# Altium footprint library transistors.pcblib: 31 footprints (part 1 of 2)
Each footprint in its own frame and in the unit in brackets; x right, y up, seen from the top. Pads: shape width x height; smd on the part's side, far side on the other; paste and mask are expansions set on the pad; w line width, h text height; cw(c..) or ccw(c..) is an arc to the next point about the centre after c.
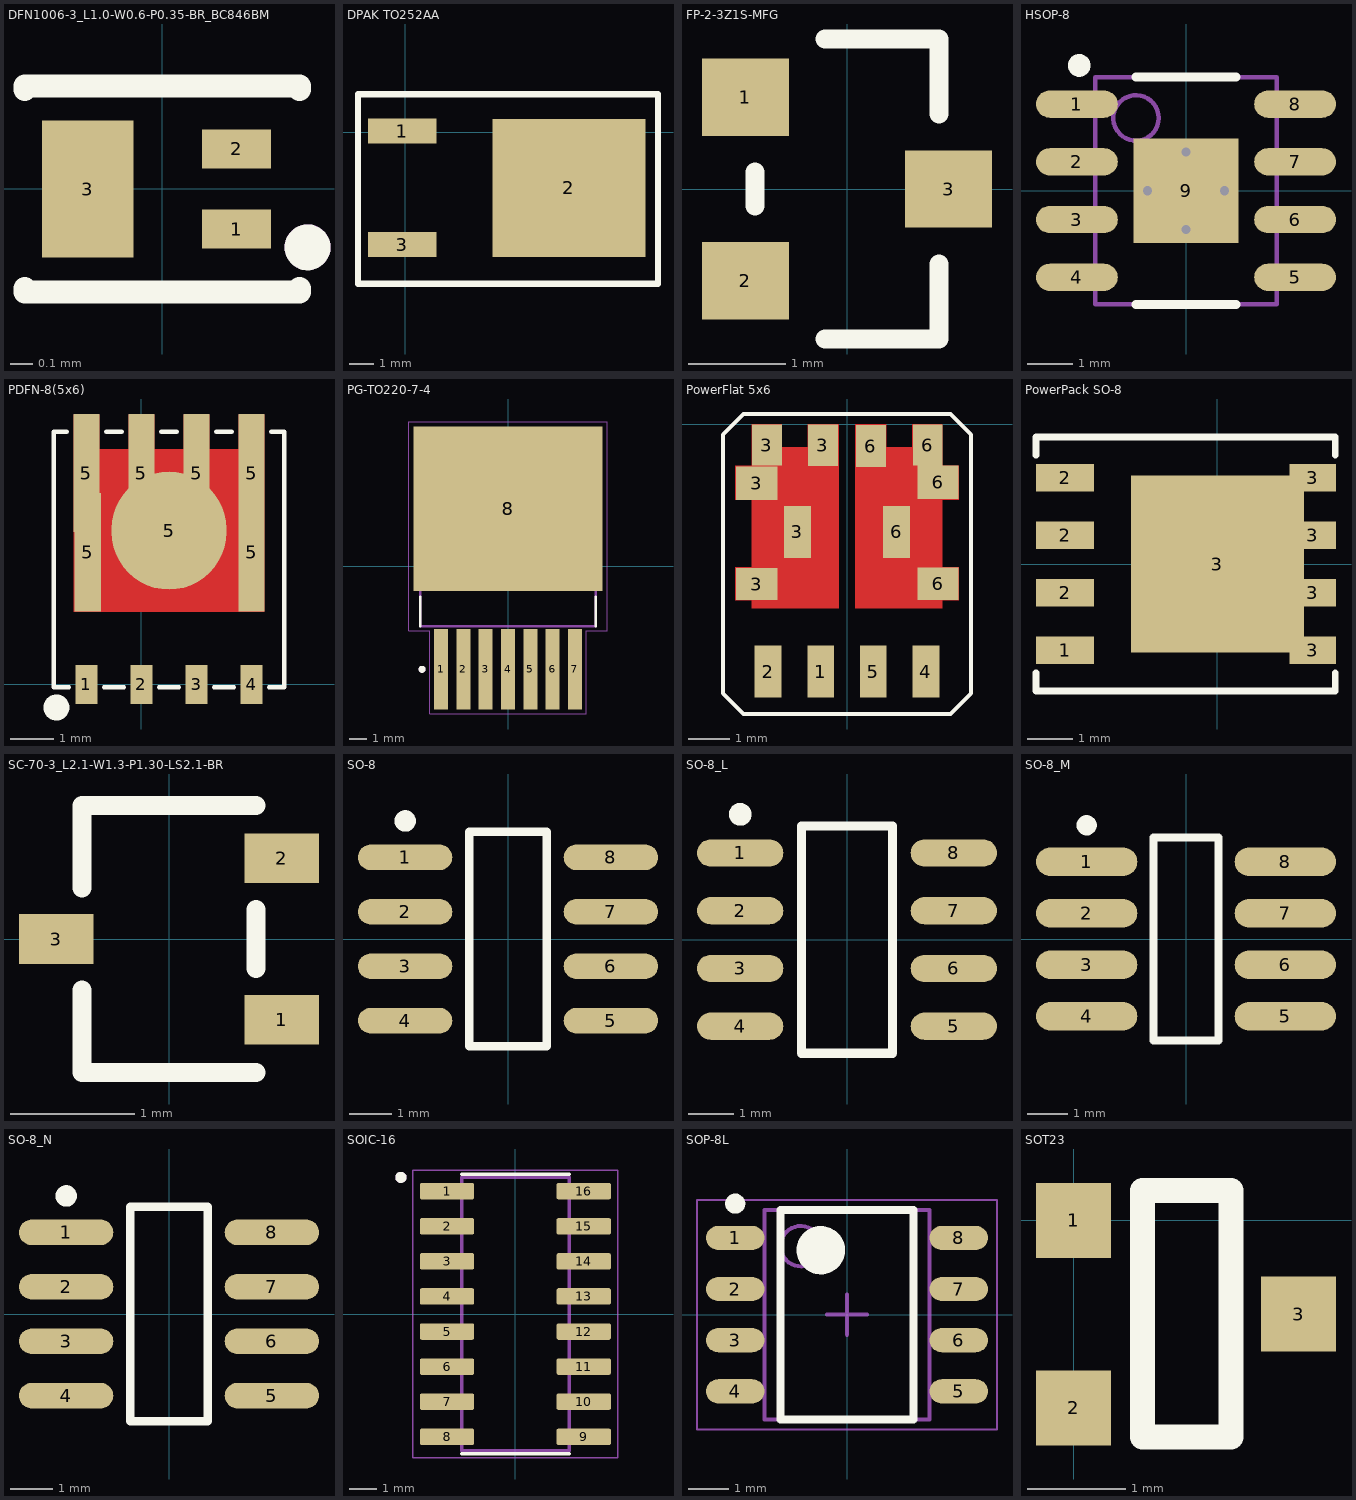
[diagram p0: the footprints below, top view; thin cyan lines are the x and y axes]

## DFN1006-3_L1.0-W0.6-P0.35-BR_BC846BM [mm]
pads (3):
  rect 0.3x0.17 smd paste+0 mask+0.05: 1(0.325,-0.175) 2(0.325,0.175)
  rect 0.4x0.6 smd paste+0 mask+0.05: 3(-0.325,0)
Top Overlay:
  circle w0.1: c0.635,-0.255 r0.05
  lines w0.1: -0.6,-0.434 -0.6,-0.45 0.6,-0.45 0.6,-0.434 ; -0.6,0.434 -0.6,0.45 0.6,0.45 0.6,0.434
Bot3D:
  circle w0.1: c0.635,-0.254 r0.05
3D body "User Library-X1-DFN1006-3_Dot.step": height 0.5, standoff 0, extent -0.5,-0.3 0.5,0.3

## DPAK TO252AA [mm]
height 4
pads (3):
  rect 2.75x1 smd: 1(-0.12,0.04) 3(-0.12,-4.52)
  rect 6.15x5.55 smd: 2(6.58,-2.24)
Top Overlay:
  lines w0.254: -1.905,-6.096 10.16,-6.096 10.16,1.524 -1.905,1.524 -1.905,-6.096
3D body "User Library-DPAK-1.step": height 2.34, standoff -0.07, extent -0.985,-5.505 8.954,1.035

## FP-2-3Z1S-MFG [mm]
pads (3):
  rect 0.9x0.8 smd paste+0 mask+0: 1(-1.05,0.95) 2(-1.05,-0.95) 3(1.05,0)
Top Overlay:
  lines w0.2: -0.95,-0.175 -0.95,0.175 ; -0.225,-1.55 0.95,-1.55 0.95,-0.775 ; -0.225,1.55 0.95,1.55 0.95,0.775
3D body "Trans_Toshiba_SSM3K361R_LF_eec.STEP": height 0.88, standoff 0, extent -1.2,-1.45 1.2,1.45

## HSOP-8 [mm]
pads (9):
  oval 1.8x0.6 smd: 1(-2.4,1.905) 2(-2.4,0.635) 3(-2.4,-0.635) 4(-2.4,-1.905) 5(2.4,-1.905) 6(2.4,-0.635) 7(2.4,0.635) 8(2.4,1.905)
  rect 2.3x2.3 smd paste-1.15: 9(0,0)
via 0,-0.85 diameter 0.5 hole 0.2
via 0,0.85 diameter 0.5 hole 0.2
via -0.85,0 diameter 0.5 hole 0.2
via 0.85,0 diameter 0.5 hole 0.2
Top Overlay:
  circle w0.25: c-2.35,2.755 r0.125
  lines w0.2: -1.1,-2.5 1.1,-2.5 ; -1.1,2.5 1.1,2.5
Top Paste:
  rectangle: 0.1,0.1 1.05,1.05
  region: -0.1,0.1 -0.1,1.05 -1.05,1.05 -1.05,0.1
  region: -0.1,-0.1 -1.05,-0.1 -1.05,-1.05 -0.1,-1.05
  region: 0.1,-0.1 0.1,-1.05 1.05,-1.05 1.05,-0.1
Plata3D:
  circle w0.1: c-1.1,1.6 r0.5
  lines w0.1: -2,-2.5 -2,2.5 2,2.5 2,-2.5 -2,-2.5
3D body: height 1.7, standoff 0, extent -2,-2.5 2,2.5

## PDFN-8(5x6) [mm]
pads (11):
  rect 0.5x0.9 smd paste-100 mask+0.05: 1(-1.27,0) 2(0,0) 3(1.27,0) 4(2.54,0)
  rect 0.61x2.73 smd mask+0.05: 5(-1.27,4.877) 5(-1.245,3.048) 5(0,4.877) 5(1.27,4.877) 5(2.54,3.048) 5(2.54,4.877)
  oval 2.646x2.73 smd: 5(0.635,3.55)
Top Layer:
  region: -1.57,1.675 -1.57,6.225 -0.97,6.225 -0.97,5.425 -0.3,5.425 -0.3,6.225 0.3,6.225 0.3,5.425 0.97,5.425 0.97,6.225 1.57,6.225 1.57,5.425 2.24,5.425 2.24,6.225 2.84,6.225 2.84,1.675
Top Overlay:
  circle w0.3: c-1.965,-0.535 r0.15
  lines w0.1: -1.724,5.83 -2.025,5.83 -2.025,-0.07 -1.674,-0.07 ; -0.866,-0.07 -0.404,-0.07 ; -0.816,5.83 -0.454,5.83 ; 0.404,-0.07 0.866,-0.07 ; 0.454,5.83 0.816,5.83 ; 1.674,-0.07 2.136,-0.07 ; 1.724,5.83 2.086,5.83 ; 2.944,-0.07 3.295,-0.07 3.295,5.83 2.994,5.83
Top Paste:
  region: -1.525,0.46 -1.025,0.46 -1.025,-0.46 -1.525,-0.46
  region: -0.255,0.46 0.245,0.46 0.245,-0.46 -0.255,-0.46
  region: 1.015,0.46 1.515,0.46 1.515,-0.46 1.015,-0.46
  region: 2.285,0.46 2.785,0.46 2.785,-0.46 2.285,-0.46
  region: -0.97,5.425 -0.97,6.225 -1.57,6.225 -1.57,1.675 2.84,1.675 2.84,6.225 2.24,6.225 2.24,5.425 1.57,5.425 1.57,6.225 0.97,6.225 0.97,5.425 0.3,5.425 0.3,6.225 -0.3,6.225 -0.3,5.425
3D body "User Library-DFN5x6_SO8FL.STEP": height 1.13, standoff 0, extent -1.94,-0.173 3.21,5.977

## PG-TO220-7-4 [mm]
height 4.4
pads (8):
  rect 0.8x4.6 smd paste-3: 1(-3.81,-5.875) 2(-2.54,-5.875) 3(-1.27,-5.875) 4(0,-5.875) 5(1.27,-5.875) 6(2.54,-5.875) 7(3.81,-5.875)
  rect 10.8x9.4 smd paste-6: 8(0,3.275)
Top Overlay:
  circle w0.2: c-4.9,-5.875 r0.1
  lines w0.127: -5,-3.425 -5,-1.745 ; 5,-3.425 5,-1.745
Top Paste:
  region: 4.189,-8.057 3.431,-8.057 3.431,-3.693 4.189,-3.693
  region: 2.919,-8.057 2.161,-8.057 2.161,-3.693 2.919,-3.693
  region: 1.649,-8.057 0.891,-8.057 0.891,-3.693 1.649,-3.693
  region: 0.379,-8.057 -0.379,-8.057 -0.379,-3.693 0.379,-3.693
  region: -0.891,-8.057 -1.649,-8.057 -1.649,-3.693 -0.891,-3.693
  region: -2.161,-8.057 -2.919,-8.057 -2.919,-3.693 -2.161,-3.693
  region: -3.431,-8.057 -4.189,-8.057 -4.189,-3.693 -3.431,-3.693
  region: -3.61,6.085 -5.03,6.085 -5.03,7.515 -3.61,7.515
  region: -1.45,6.085 -2.87,6.085 -2.87,7.515 -1.45,7.515
  region: 5.03,6.085 3.61,6.085 3.61,7.515 5.03,7.515
  region: 2.87,6.085 1.45,6.085 1.45,7.515 2.87,7.515
  region: 0.71,6.085 -0.71,6.085 -0.71,7.515 0.71,7.515
  region: -3.61,3.735 -5.03,3.735 -5.03,5.165 -3.61,5.165
  region: -1.45,3.735 -2.87,3.735 -2.87,5.165 -1.45,5.165
  region: 5.03,3.735 3.61,3.735 3.61,5.165 5.03,5.165
  region: 2.87,3.735 1.45,3.735 1.45,5.165 2.87,5.165
  region: 0.71,3.735 -0.71,3.735 -0.71,5.165 0.71,5.165
  region: -3.61,1.385 -5.03,1.385 -5.03,2.815 -3.61,2.815
  region: -1.45,1.385 -2.87,1.385 -2.87,2.815 -1.45,2.815
  region: 5.03,1.385 3.61,1.385 3.61,2.815 5.03,2.815
  region: 2.87,1.385 1.45,1.385 1.45,2.815 2.87,2.815
  region: 0.71,1.385 -0.71,1.385 -0.71,2.815 0.71,2.815
  region: -3.61,-0.965 -5.03,-0.965 -5.03,0.465 -3.61,0.465
  region: -1.45,-0.965 -2.87,-0.965 -2.87,0.465 -1.45,0.465
  region: 5.03,-0.965 3.61,-0.965 3.61,0.465 5.03,0.465
  region: 2.87,-0.965 1.45,-0.965 1.45,0.465 2.87,0.465
  region: 0.71,-0.965 -0.71,-0.965 -0.71,0.465 0.71,0.465
Plata3D:
  circle w0.2: c-4.9,-5.875 r0.1
  lines w0.127: -5,-3.425 -5,6.825 5,6.825 5,-3.425 -5,-3.425
Board3D:
  lines w0.05: -5.65,-3.675 -4.46,-3.675 -4.46,-8.425 4.46,-8.425 4.46,-3.675 5.65,-3.675 5.65,8.225 -5.65,8.225 -5.65,-3.675
3D body "TO-263-8.STEP": height 4.51, standoff 0.01, extent -5,-7.45 5,7.5

## PowerFlat 5x6 [mm]
pads (14):
  rect 0.65x1.25 smd: 1(-0.635,-5.975) 2(-1.905,-5.975) 4(1.905,-5.975) 5(0.635,-5.975)
  rect 1x0.78 smd mask+0.05: 3(-2.184,-3.861) 6(2.2,-3.85)
  rect 1x0.8 smd mask+0.05: 3(-2.184,-1.422) 6(2.2,-1.4)
  rect 0.725x1 smd mask+0.05: 3(-1.938,-0.5) 3(-0.584,-0.508)
  rect 0.65x1.25 smd mask+0: 3(-1.2,-2.6) 6(1.2,-2.6)
  rect 0.725x1.01 smd mask+0.05: 6(0.575,-0.525)
  rect 0.715x1 smd mask+0.05: 6(1.95,-0.5)
Top Layer:
  region: -0.2,-4.45 -2.3,-4.45 -2.3,-4.25 -2.7,-4.25 -2.7,-3.45 -2.3,-3.45 -2.3,-1.825 -2.7,-1.825 -2.7,-1 -2.3,-1 -2.3,0 -1.575,0 -1.575,-0.55 -0.95,-0.55 -0.95,0 -0.2,0
  region: 0.2,-4.45 2.3,-4.45 2.3,-4.25 2.7,-4.25 2.7,-3.45 2.3,-3.45 2.3,-1.825 2.7,-1.825 2.7,-1 2.3,-1 2.3,0 1.575,0 1.575,-0.55 0.95,-0.55 0.95,0 0.2,0
Top Overlay:
  lines w0.1: 2.5,-7 3,-6.5 3,-0.25 2.5,0.25 -2.5,0.25 -3,-0.25 -3,-2.5 -3,-6.5 -2.5,-7 2.5,-7 ; 2.5,-7 2.5,-7
3D body "User Library-Power_Flat_5x6.step": height 0.95, standoff -0.04, extent -2.6,-6.375 2.6,-0.225

## PowerPack SO-8 [mm]
pads (9):
  rect 1.27x0.61 smd mask+0.05: 1(-3.36,-1.905) 2(-3.36,-0.635) 2(-3.36,0.635) 2(-3.36,1.905)
  rect 3.81x3.91 smd mask+0.05: 3(0,0)
  rect 1.02x0.61 smd mask+0.05: 3(2.105,-1.905) 3(2.105,-0.635) 3(2.105,0.635) 3(2.105,1.905)
Top Overlay:
  lines w0.15: -4,-2.4 -4,-2.8 2.6,-2.8 2.6,-2.4 ; -4,2.4 -4,2.8 2.6,2.8 2.6,2.4
3D body "User Library-PowerPAK_SO8_single.step": height 1.09, standoff -0.03, extent -3.8,-2.625 2.44,2.625

## SC-70-3_L2.1-W1.3-P1.30-LS2.1-BR [mm]
pads (3):
  rect 0.6x0.4 smd: 1(0.91,-0.65) 2(0.91,0.65) 3(-0.91,0)
Top Overlay:
  lines w0.152: -0.701,-0.411 -0.701,-1.076 0.701,-1.076 ; -0.701,0.411 -0.701,1.076 0.701,1.076 ; 0.701,-0.239 0.701,0.239
3D body "User Library-sc70-3.step": height 1, standoff 0, extent -1.15,-1.05 1.15,1.05

## SO-8 [mm] "SOIC, 8-Leads, Body 4.9x3.9mm, Pitch 1.27mm, IPC Medium Density"
height 1.75
pads (8):
  oval 2.2x0.6 smd: 1(-2.4,1.905) 2(-2.4,0.635) 3(-2.4,-0.635) 4(-2.4,-1.905) 5(2.4,-1.905) 6(2.4,-0.635) 7(2.4,0.635) 8(2.4,1.905)
Top Overlay:
  circle w0.25: c-2.4,2.755 r0.125
  lines w0.2: -0.9,-2.5 0.9,-2.5 0.9,2.5 -0.9,2.5 -0.9,-2.5
3D body "so-8.step": height 1.88, standoff -0.03, extent -3.169,-2.515 3.169,2.489

## SO-8_L [mm] "SOIC, 8-Leads, Body 4.9x3.9mm, Pitch 1.27mm, IPC High Density"
height 1.75
pads (8):
  oval 1.9x0.6 smd: 1(-2.35,1.905) 2(-2.35,0.635) 3(-2.35,-0.635) 4(-2.35,-1.905) 5(2.35,-1.905) 6(2.35,-0.635) 7(2.35,0.635) 8(2.35,1.905)
Top Overlay:
  circle w0.25: c-2.35,2.755 r0.125
  lines w0.2: -1,-2.5 -1,2.5 1,2.5 1,-2.5 -1,-2.5
3D body "so-8.step": height 1.88, standoff -0.03, extent -3.169,-2.515 3.169,2.489

## SO-8_M [mm] "SOIC, 8-Leads, Body 4.9x3.9mm, Pitch 1.27mm, IPC Low Density"
height 1.75
pads (8):
  oval 2.5x0.7 smd: 1(-2.45,1.905) 2(-2.45,0.635) 3(-2.45,-0.635) 4(-2.45,-1.905) 5(2.45,-1.905) 6(2.45,-0.635) 7(2.45,0.635) 8(2.45,1.905)
Top Overlay:
  circle w0.25: c-2.45,2.805 r0.125
  lines w0.2: -0.8,-2.5 0.8,-2.5 0.8,2.5 -0.8,2.5 -0.8,-2.5
3D body "so-8.step": height 1.88, standoff -0.03, extent -3.169,-2.515 3.169,2.489

## SO-8_N [mm] "SOIC, 8-Leads, Body 4.9x3.9mm, Pitch 1.27mm, IPC Medium Density"
height 1.75
pads (8):
  oval 2.2x0.6 smd: 1(-2.4,1.905) 2(-2.4,0.635) 3(-2.4,-0.635) 4(-2.4,-1.905) 5(2.4,-1.905) 6(2.4,-0.635) 7(2.4,0.635) 8(2.4,1.905)
Top Overlay:
  circle w0.25: c-2.4,2.755 r0.125
  lines w0.2: -0.9,-2.5 0.9,-2.5 0.9,2.5 -0.9,2.5 -0.9,-2.5
3D body "so-8.step": height 1.88, standoff -0.03, extent -3.169,-2.515 3.169,2.489

## SOIC-16 [mm]
pads (16):
  rrect25% 1.97x0.6 smd: 1(-2.475,4.445) 2(-2.475,3.175) 3(-2.475,1.905) 4(-2.475,0.635) 5(-2.475,-0.635) 6(-2.475,-1.905) 7(-2.475,-3.175) 8(-2.475,-4.445) 9(2.475,-4.445) 10(2.475,-3.175) 11(2.475,-1.905) 12(2.475,-0.635) 13(2.475,0.635) 14(2.475,1.905) 15(2.475,3.175) 16(2.475,4.445)
Top Overlay:
  circle w0.2: c-4.145,4.945 r0.1
  lines w0.127: -1.95,-5.065 1.95,-5.065 ; -1.95,5.065 1.95,5.065
Plata3D:
  circle w0.2: c-4.145,4.945 r0.1
  lines w0.127: -1.95,-4.95 1.95,-4.95 1.95,4.95 -1.95,4.95 -1.95,-4.95
Board3D:
  lines w0.05: -3.71,-5.2 3.71,-5.2 3.71,5.2 -3.71,5.2 -3.71,-5.2
3D body "step_temp.STEP": height 1.75, standoff 0, extent -2.997,-4.953 2.997,4.953

## SOP-8L [mm] "SOP, 8-Leads, Body 4,93x3,90mm, Pitch 1,27mm, IPC Medium Density"
height 1.75
pads (8):
  oval 1.45x0.6 smd: 1(-2.775,1.905) 2(-2.775,0.635) 3(-2.775,-0.635) 4(-2.775,-1.905) 5(2.775,-1.905) 6(2.775,-0.635) 7(2.775,0.635) 8(2.775,1.905)
Top Overlay:
  circle w0.25: c-2.775,2.755 r0.125
  circle w0.6: c-0.65,1.6 r0.3
  lines w0.2: -1.65,-2.6 -1.65,2.6 1.65,2.6 1.65,-2.6 -1.65,-2.6
Plata3D:
  circle w0.1: c-1.15,1.7 r0.5
  lines w0.1: -2.05,-2.6 -2.05,2.6 2.05,2.6 2.05,-2.6 -2.05,-2.6
Board3D:
  lines w0.05: -3.725,-2.85 -3.725,2.85 3.725,2.85 3.725,-2.85 -3.725,-2.85
  lines w0.1: -0.5,0 0.5,0 ; 0,-0.5 0,0.5
3D body "SOP127P600X175-8N.step": height 1.75, standoff 0, extent -3,-2.6 3,2.6

## SOT23 [mil]
height 118.11
pads (3):
  rect 30x30 smd: 1(0,0) 2(0,-75) 3(90,-37.5)
Top Overlay:
  lines w10: 27.56,-86.61 27.56,11.81 62.99,11.81 62.99,-86.61 27.56,-86.61
3D body "SOT-23.step": height 41.34, standoff -1.97, extent -4,-97 94.42,21.11